# EAGLE library part TSL1402R (library lpatiny)
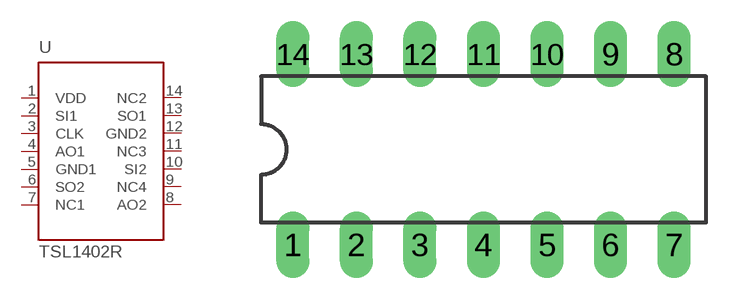
[diagram p20: symbol with the pads of DIL14; footprint DIL14]

Designator prefix -

## TSL1402R  [DIL14]
1  VDD  pwr
2  SI1  in
3  CLK  in
4  AO1  out
5  GND1  pwr
6  SO2  out
7  NC1  nc
8  AO2  out
9  NC4  nc
10  SI2  in
11  NC3  nc
12  GND2  pwr
13  SO1  out
14  NC2  nc

## Footprint DIL14 (pad centres in mm)
Dual In Line Package
drill 0.813 long: 1 -7.62,-3.81; 2 -5.08,-3.81; 3 -2.54,-3.81; 4 0,-3.81; 5 2.54,-3.81; 6 5.08,-3.81; 7 7.62,-3.81; 8 7.62,3.81; 9 5.08,3.81; 10 2.54,3.81; 11 0,3.81; 12 -2.54,3.81; 13 -5.08,3.81; 14 -7.62,3.81